# EAGLE library part ESP8266EX (library Challenger-2040)
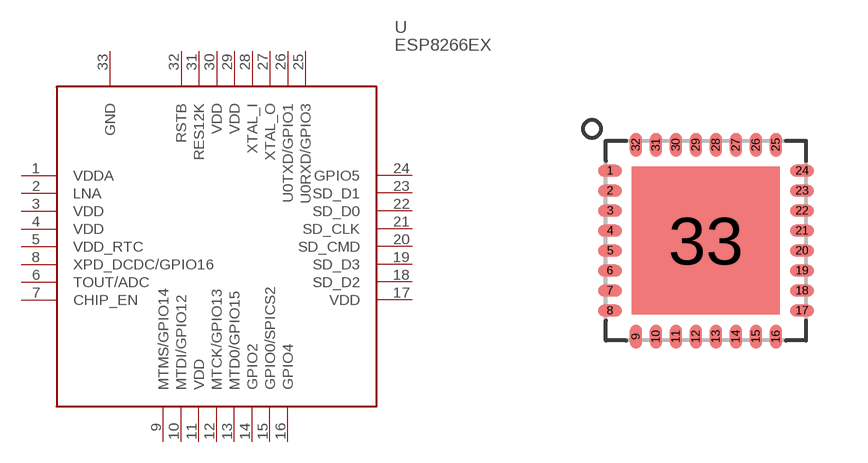
[diagram p1: symbol with the pads of SLP32; footprint SLP32]

Designator prefix U

## ESP8266EXT  [SLP32]
1  VDDA
2  LNA
3  VDD
4  VDD
5  VDD_RTC
6  TOUT/ADC
7  CHIP_EN
8  XPD_DCDC/GPIO16
9  MTMS/GPIO14
10  MTDI/GPIO12
11  VDD
12  MTCK/GPIO13
13  MTD0/GPIO15
14  GPIO2
15  GPIO0/SPICS2
16  GPIO4
17  VDD
18  SD_D2
19  SD_D3
20  SD_CMD
21  SD_CLK
22  SD_D0
23  SD_D1
24  GPIO5
25  U0RXD/GPIO3
26  U0TXD/GPIO1
27  XTAL_O
28  XTAL_I
29  VDD
30  VDD
31  RES12K
32  RSTB
33  GND

## Footprint SLP32 (pad centres in mm)
smd 0.6 x 0.3: 1 -2.4,1.75; 2 -2.4,1.25; 3 -2.4,0.75; 4 -2.4,0.25; 5 -2.4,-0.25; 6 -2.4,-0.75; 7 -2.4,-1.25; 8 -2.4,-1.75; 17 2.4,-1.75; 18 2.4,-1.25; 19 2.4,-0.75; 20 2.4,-0.25; 21 2.4,0.25; 22 2.4,0.75; 23 2.4,1.25; 24 2.4,1.75
smd 0.3 x 0.6: 9 -1.75,-2.4; 10 -1.25,-2.4; 11 -0.75,-2.4; 12 -0.25,-2.4; 13 0.25,-2.4; 14 0.75,-2.4; 15 1.25,-2.4; 16 1.75,-2.4; 25 1.75,2.4; 26 1.25,2.4; 27 0.75,2.4; 28 0.25,2.4; 29 -0.25,2.4; 30 -0.75,2.4; 31 -1.25,2.4; 32 -1.75,2.4
smd 3.7 x 3.7: 33 0,0